# Altium schematic symbol library XC6210B502PR-G.SchLib: 1 symbol
Pins are listed as number, name and electrical type; pins without a type are passive.

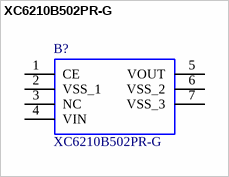
[diagram p0: symbol XC6210B502PR-G]

## XC6210B502PR-G
designator B?
LDO Voltage Regulators 700mA High Speed LDO Regulator; Manufacturer_Name: Torex; Geometry.Height: 1.6mm; Mouser Part Number: 865-XC6210B502PR-G; Mouser Price/Stock: https://www.mouser.co.uk/ProductDetail/Torex-Semiconductor/XC6210B502PR-G?qs=AsjdqWjXhJ8XXo5wZ7cEHQ%3D%3D; Manufacturer_Part_Number: XC6210B502PR-G; Datasheet Link: https://www.torex.co.jp/file/xc6210/XC6210-j.pdf
footprint XC6210B502PRG
pins: 1 CE, 2 VSS_1, 3 NC, 4 VIN, 5 VOUT, 6 VSS_2, 7 VSS_3